# EAGLE library part TDA7560 (library Audio-Power-amlifier V.2.0)
The TDA7560 is a breakthrough BCD (Bipolar / CMOS / DMOS) technology class AB Audio Power Amplifier in Flexiwatt 25 package designed for high power car radio. The fully complementary P-Channel/N-Channel output structure allows a rail to rail output voltage swing which, combined with high output current and minimised saturation losses sets new power references in the car-radio field, with unparalleled distortion performances.
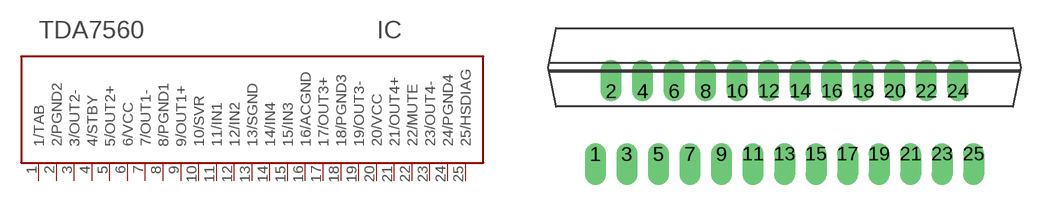
[diagram p158: symbol with the pads of FLEXIWATT25; footprint FLEXIWATT25]

Designator prefix IC

## TDA7560  [FLEXIWATT25]
1  1/TAB
2  2/PGND2  pwr
3  3/OUT2-  out
4  4/STBY  in
5  5/OUT2+  out
6  6/VCC  pwr
7  7/OUT1-  out
8  8/PGND1  pwr
9  9/OUT1+  out
10  10/SVR
11  11/IN1  in
12  12/IN2  in
13  13/SGND  pwr
14  14/IN4  in
15  15/IN3  in
16  16/ACGND  pwr
17  17/OUT3+  out
18  18/PGND3  pwr
19  19/OUT3-  out
20  20/VCC  pwr
21  21/OUT4+  out
22  22/MUTE  in
23  23/OUT4-  out
24  24/PGND4  pwr
25  25/HSDIAG  in

## Footprint FLEXIWATT25 (pad centres in mm)
Flexiwatt25 (vertical)
drill 0.813 offset: 1 -12,0; 2 -11,4; 3 -10,0; 4 -9,4; 5 -8,0; 6 -7,4; 7 -6,0; 8 -5,4; 9 -4,0; 10 -3,4; 11 -2,0; 12 -1,4; 13 0,0; 14 1,4; 15 2,0; 16 3,4; 17 4,0; 18 5,4; 19 6,0; 20 7,4; 21 8,0; 22 9,4; 23 10,0; 24 11,4; 25 12,0